# Altium schematic symbol library Vectra_bluetooth.SchLib: 1 symbol
Pins are listed as number, name and electrical type; pins without a type are passive.

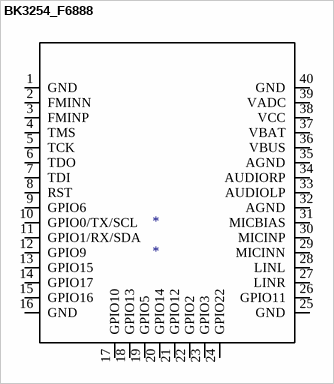
[diagram p0: symbol BK3254_F6888]

## BK3254_F6888
designator *
pins: 1 GND, 2 FMINN, 3 FMINP, 4 TMS, 5 TCK, 6 TDO, 7 TDI, 8 RST, 9 GPIO6, 10 GPIO0/TX/SCL, 11 GPIO1/RX/SDA, 12 GPIO9, 13 GPIO15, 14 GPIO17, 15 GPIO16, 16 GND, 17 GPIO10, 18 GPIO13, 19 GPIO5, 20 GPIO14, 21 GPIO12, 22 GPIO2, 23 GPIO3, 24 GPIO22, 25 GND, 26 GPIO11, 27 LINR, 28 LINL, 29 MICINN, 30 MICINP, 31 MICBIAS, 32 AGND, 33 AUDIOLP, 34 AUDIORP, 35 AGND, 36 VBUS, 37 VBAT, 38 VCC, 39 VADC, 40 GND